# Altium schematic symbol library SLW-104-01-G-D.SchLib: 1 symbol
Pins are listed as number, name and electrical type; pins without a type are passive.

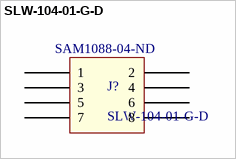
[diagram p0: symbol SLW-104-01-G-D]

## SLW-104-01-G-D
designator J?  Supplier Part Number 1: SAM1088-04-ND
CONN RCPT 8POS 0.1 GOLD PCB; Supplier 1: Digi-Key; ComponentLink1Description: Series Datasheet; ComponentLink1URL: http://suddendocs.samtec.com/prints/slw-1xx-01-x-x-mkt.pdf
footprint SLW-104-01-X-D
pins: 1, 2, 3, 4, 5, 6, 7, 8